# Altium schematic symbol library RELAY3.3V.SchLib: 1 symbol
Pins are listed as number, name and electrical type; pins without a type are passive.

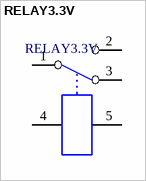
[diagram p0: symbol RELAY3.3V]

## RELAY3.3V
designator RELAY3.3V  (value not drawn)
footprint RELAY3.3V
pins: 1, 2, 3, 4, 5